# Altium integrated library Linear Technology PMIC-Switching Reg LTC1174-LTC3901.IntLib: 2647 symbols (part 11 of 310)
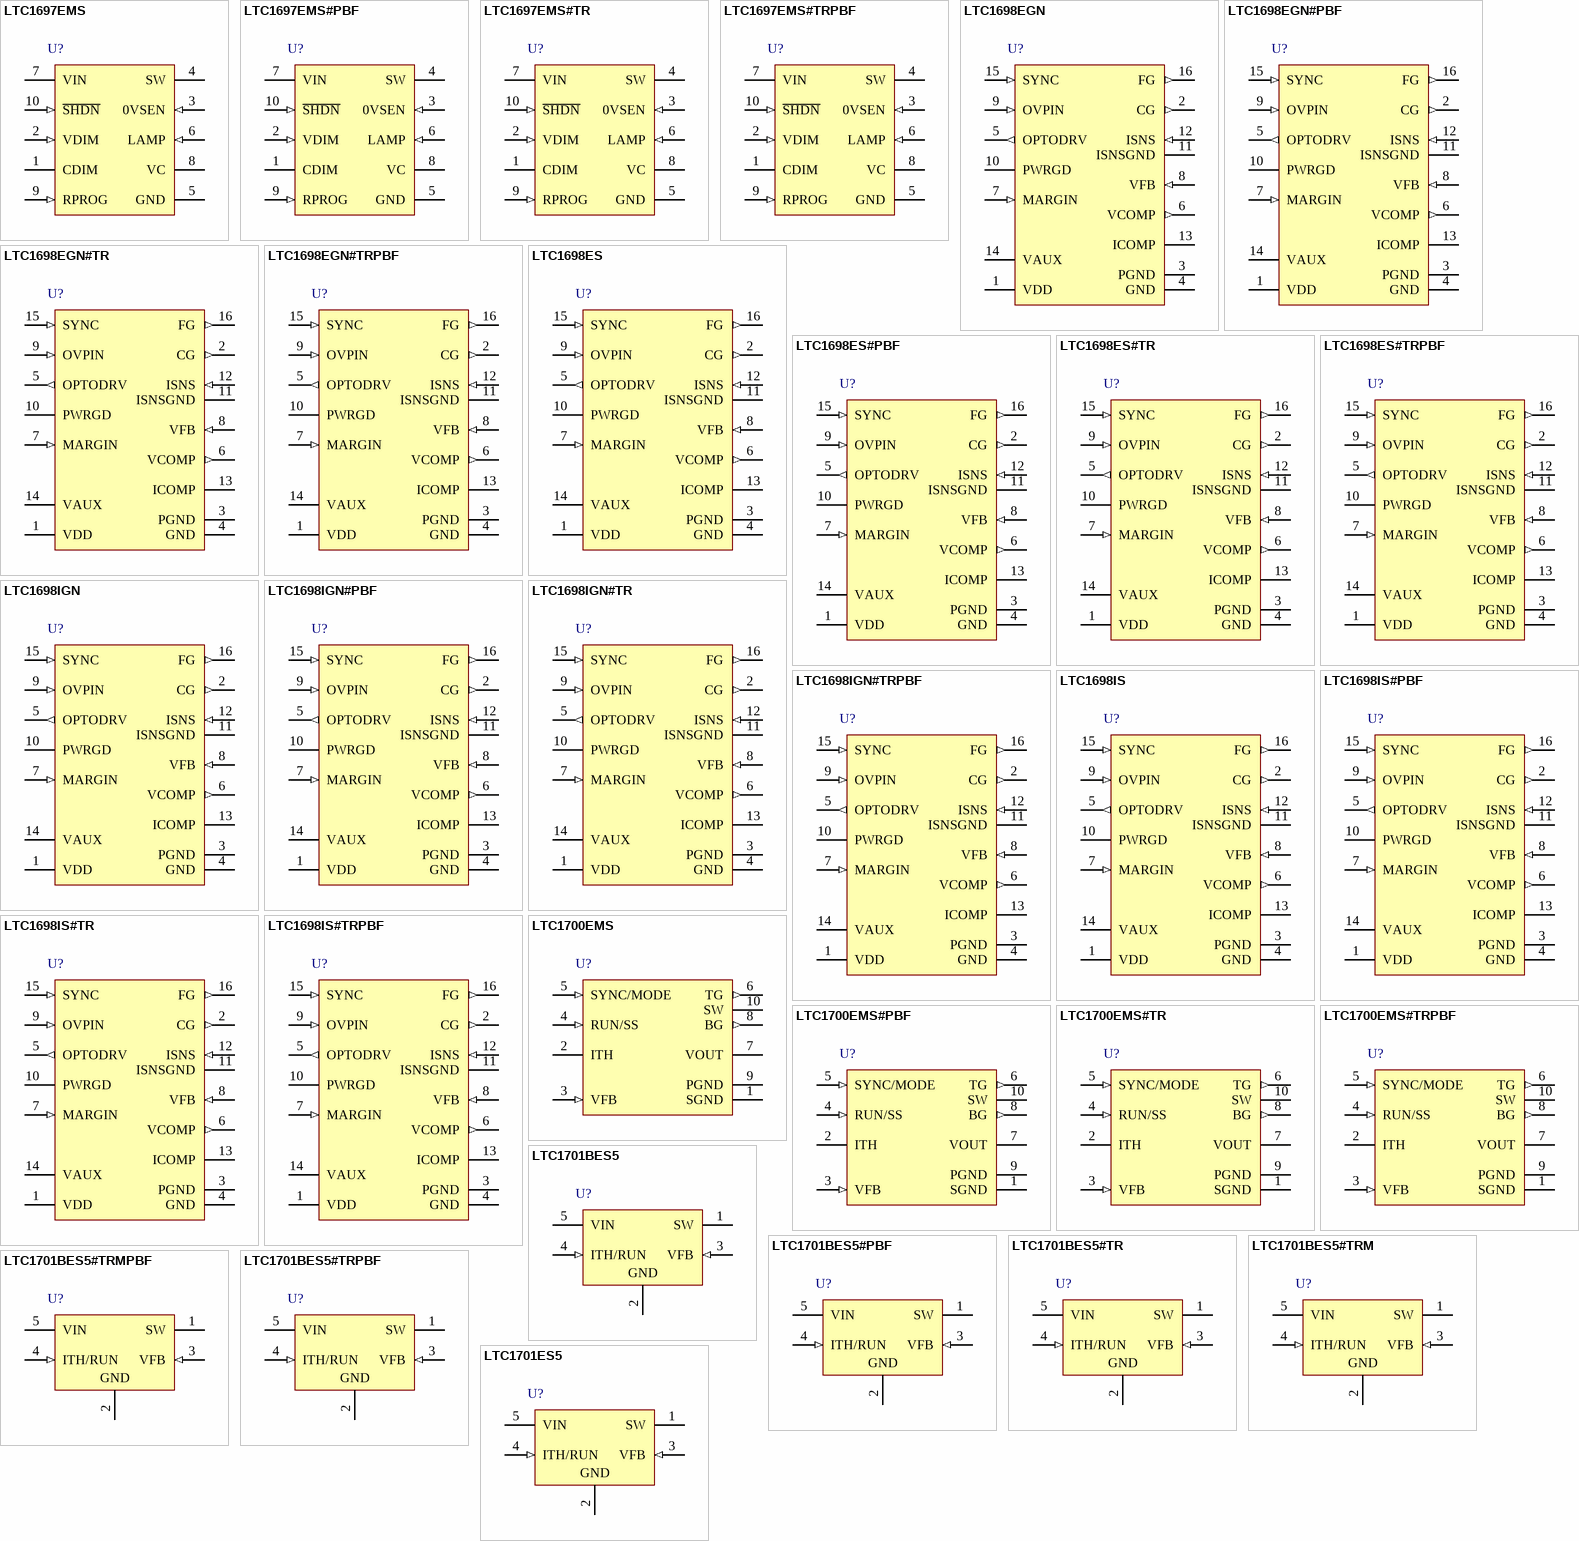
[diagram p121: symbols LTC1697EMS to LTC1701ES5]

## LTC1698IS#PBF
designator U?
Secondary Synchronous Rectifier Controller MIN, 16-pin SOP (S-16), -40 to 85 degC, Pb-Free; Manufacturer: Linear Technology; PartNumber: LTC1698IS#PBF; Number of Outputs: 1; PackageReference: S-16; PackageDescription: 16-Pin Plastic Small Outline, Body 9.9 x 3.9 mm, Pitch 1.27 mm; Supplier 1: Digi-Key; Supplier Part Number 1: LTC1698IS#PBF-ND; RoHS: TRUE
footprint LT-S-16_N (SOP, 16-Leads, Body 10x4mm, Pitch 1.27mm, IPC Medium Density)
footprint LT-S-16_L (SOP, 16-Leads, Body 10x4mm, Pitch 1.27mm, IPC High Density)
footprint LT-S-16_M (SOP, 16-Leads, Body 10x4mm, Pitch 1.27mm, IPC Low Density)
pins: 1 VDD (power) "Power Supply Input. For isolated applications, a simple rectifier from the power transformer is used to power the chip. This pin powers the opto driver, the VAUX supply and the FG and CG drivers. An internal 5V regulator (See Datasheet)", 2 CG (out) "Catch Gate Driver. If SYNC slews positive, CG pulls high to drive an external N-channel MOSFET. CG draws power from the VDD pin and swings between VDD and PGND.", 3 PGND (power) "Power Ground. Connect PGND to a low impedance ground plane in close proximity to the ground terminal of the external current sensing resistor.", 4 GND (power) "Logic and Signal Ground. GND is referenced to the internal low power circuitry. Careful board layout techniques must be used to prevent corruption of signal ground reference. Connect GND and PGND together directly at the (See Datasheet)", 5 OPTODRV (out) "Optocoupler Driver Output. This pin drives a ground referenced optocoupler through an external resistor. If VFB is low, OPTODRV pulls low. If VFB is high, OPTODRV pulls high. This optocoupler driver has a DC gain of 5. (See Datasheet)", 6 VCOMP (out) "Error Amplifier Output. This error amplifier is able to drive more than 2kohm and 100pF of load. The internal diode connected from VFB to VCOMP reduces OPTODRV recovery time under start-up conditions.", 7 MARGIN (in) "Current Input to Adjust the Output Voltage Linearly. The MARGIN pin connects to an internal 16.5k resistor. The other end of this resistor is regulated to 1.65V. Connecting MARGIN to a 3.3V logic supply sources 100uA of (See Datasheet)", 8 VFB (in) "Feedback Voltage. VFB senses the regulated output voltage through an external resistor divider. The VFB pin is servoed to the reference voltage of 1.233V under closed-loop conditions. An RC network from VFB to VCOMP (See Datasheet)", 9 OVPIN (in) "Overvoltage Input. OVPIN is a high impedance input to an internal comparator. The threshold of this comparator is set to 1.233V. If the OVPIN potential is higher than the threshold voltage, OPTODRV pulls high immediately. (See Datasheet)", 10 PWRGD (oc) "Power Good Output. This is an opendrain output. PWRGD floats if VFB is above 94% of the nominal value for more than 2ms. PWRGD pulls low if VFB is below 94% of the nominal value for more than 1ms. The PWRGD threshold is (See Datasheet)", 11 ISNSGND (power) "Current Sense Ground. Connect to the positive side of the sense resistor, normally grounded.", 12 ISNS (in) "Current Sense Input. Connect to the negative side of the sense resistor through an external RC lowpass filter. This pin normally sees a negative voltage, which is proportional to the average load current. If current limit is (See Datasheet)", 13 ICOMP "Current Amplifier Output. An RC network at this pin compensates the current limit feedback loop. Referencing the RC to VOUT controls output voltage overshoot on start-up. This pin can float if current limit loop compensation (See Datasheet)", 14 VAUX (power) "Auxiliary 3.3V Logic Supply. This pin requires a 0.1uF or greater bypass capacitor. This auxiliary power supply can power external devices and sources 10mA of current. Internal current limiting is provided.", 15 SYNC (in) "Drivers Synchronization Input. A negative voltage slew at SYNC forces FG to pull high and CG to pull low. A positive voltage slew at SYNC resets the FG pin and CG pulls high. If SYNC loses its synchronization signal for more (See Datasheet)", 16 FG (out) "Forward Gate Driver. If SYNC slews negative, FG goes high. FG draws power from VDD and swings between VDD and PGND."

## LTC1698IS#TR
designator U?
Secondary Synchronous Rectifier Controller MIN, 16-pin SOP (S-16), -40 to 85 degC, Tape and Reel; Manufacturer: Linear Technology; PartNumber: LTC1698IS#TR; Number of Outputs: 1; PackageReference: S-16; PackageDescription: 16-Pin Plastic Small Outline, Body 9.9 x 3.9 mm, Pitch 1.27 mm; Supplier 1: Digi-Key; Supplier Part Number 1: LTC1698IS#TR-ND; RoHS: FALSE
footprint LT-S-16_N (SOP, 16-Leads, Body 10x4mm, Pitch 1.27mm, IPC Medium Density)
footprint LT-S-16_L (SOP, 16-Leads, Body 10x4mm, Pitch 1.27mm, IPC High Density)
footprint LT-S-16_M (SOP, 16-Leads, Body 10x4mm, Pitch 1.27mm, IPC Low Density)
pins: 1 VDD (power) "Power Supply Input. For isolated applications, a simple rectifier from the power transformer is used to power the chip. This pin powers the opto driver, the VAUX supply and the FG and CG drivers. An internal 5V regulator (See Datasheet)", 2 CG (out) "Catch Gate Driver. If SYNC slews positive, CG pulls high to drive an external N-channel MOSFET. CG draws power from the VDD pin and swings between VDD and PGND.", 3 PGND (power) "Power Ground. Connect PGND to a low impedance ground plane in close proximity to the ground terminal of the external current sensing resistor.", 4 GND (power) "Logic and Signal Ground. GND is referenced to the internal low power circuitry. Careful board layout techniques must be used to prevent corruption of signal ground reference. Connect GND and PGND together directly at the (See Datasheet)", 5 OPTODRV (out) "Optocoupler Driver Output. This pin drives a ground referenced optocoupler through an external resistor. If VFB is low, OPTODRV pulls low. If VFB is high, OPTODRV pulls high. This optocoupler driver has a DC gain of 5. (See Datasheet)", 6 VCOMP (out) "Error Amplifier Output. This error amplifier is able to drive more than 2kohm and 100pF of load. The internal diode connected from VFB to VCOMP reduces OPTODRV recovery time under start-up conditions.", 7 MARGIN (in) "Current Input to Adjust the Output Voltage Linearly. The MARGIN pin connects to an internal 16.5k resistor. The other end of this resistor is regulated to 1.65V. Connecting MARGIN to a 3.3V logic supply sources 100uA of (See Datasheet)", 8 VFB (in) "Feedback Voltage. VFB senses the regulated output voltage through an external resistor divider. The VFB pin is servoed to the reference voltage of 1.233V under closed-loop conditions. An RC network from VFB to VCOMP (See Datasheet)", 9 OVPIN (in) "Overvoltage Input. OVPIN is a high impedance input to an internal comparator. The threshold of this comparator is set to 1.233V. If the OVPIN potential is higher than the threshold voltage, OPTODRV pulls high immediately. (See Datasheet)", 10 PWRGD (oc) "Power Good Output. This is an opendrain output. PWRGD floats if VFB is above 94% of the nominal value for more than 2ms. PWRGD pulls low if VFB is below 94% of the nominal value for more than 1ms. The PWRGD threshold is (See Datasheet)", 11 ISNSGND (power) "Current Sense Ground. Connect to the positive side of the sense resistor, normally grounded.", 12 ISNS (in) "Current Sense Input. Connect to the negative side of the sense resistor through an external RC lowpass filter. This pin normally sees a negative voltage, which is proportional to the average load current. If current limit is (See Datasheet)", 13 ICOMP "Current Amplifier Output. An RC network at this pin compensates the current limit feedback loop. Referencing the RC to VOUT controls output voltage overshoot on start-up. This pin can float if current limit loop compensation (See Datasheet)", 14 VAUX (power) "Auxiliary 3.3V Logic Supply. This pin requires a 0.1uF or greater bypass capacitor. This auxiliary power supply can power external devices and sources 10mA of current. Internal current limiting is provided.", 15 SYNC (in) "Drivers Synchronization Input. A negative voltage slew at SYNC forces FG to pull high and CG to pull low. A positive voltage slew at SYNC resets the FG pin and CG pulls high. If SYNC loses its synchronization signal for more (See Datasheet)", 16 FG (out) "Forward Gate Driver. If SYNC slews negative, FG goes high. FG draws power from VDD and swings between VDD and PGND."

## LTC1698IS#TRPBF
designator U?
Secondary Synchronous Rectifier Controller MIN, 16-pin SOP (S-16), -40 to 85 degC, Pb-Free, Tape and Reel; Manufacturer: Linear Technology; PartNumber: LTC1698IS#TRPBF; Number of Outputs: 1; PackageReference: S-16; PackageDescription: 16-Pin Plastic Small Outline, Body 9.9 x 3.9 mm, Pitch 1.27 mm; Supplier 1: Digi-Key; Supplier Part Number 1: LTC1698IS#TRPBF-ND; RoHS: TRUE
footprint LT-S-16_N (SOP, 16-Leads, Body 10x4mm, Pitch 1.27mm, IPC Medium Density)
footprint LT-S-16_L (SOP, 16-Leads, Body 10x4mm, Pitch 1.27mm, IPC High Density)
footprint LT-S-16_M (SOP, 16-Leads, Body 10x4mm, Pitch 1.27mm, IPC Low Density)
pins: 1 VDD (power) "Power Supply Input. For isolated applications, a simple rectifier from the power transformer is used to power the chip. This pin powers the opto driver, the VAUX supply and the FG and CG drivers. An internal 5V regulator (See Datasheet)", 2 CG (out) "Catch Gate Driver. If SYNC slews positive, CG pulls high to drive an external N-channel MOSFET. CG draws power from the VDD pin and swings between VDD and PGND.", 3 PGND (power) "Power Ground. Connect PGND to a low impedance ground plane in close proximity to the ground terminal of the external current sensing resistor.", 4 GND (power) "Logic and Signal Ground. GND is referenced to the internal low power circuitry. Careful board layout techniques must be used to prevent corruption of signal ground reference. Connect GND and PGND together directly at the (See Datasheet)", 5 OPTODRV (out) "Optocoupler Driver Output. This pin drives a ground referenced optocoupler through an external resistor. If VFB is low, OPTODRV pulls low. If VFB is high, OPTODRV pulls high. This optocoupler driver has a DC gain of 5. (See Datasheet)", 6 VCOMP (out) "Error Amplifier Output. This error amplifier is able to drive more than 2kohm and 100pF of load. The internal diode connected from VFB to VCOMP reduces OPTODRV recovery time under start-up conditions.", 7 MARGIN (in) "Current Input to Adjust the Output Voltage Linearly. The MARGIN pin connects to an internal 16.5k resistor. The other end of this resistor is regulated to 1.65V. Connecting MARGIN to a 3.3V logic supply sources 100uA of (See Datasheet)", 8 VFB (in) "Feedback Voltage. VFB senses the regulated output voltage through an external resistor divider. The VFB pin is servoed to the reference voltage of 1.233V under closed-loop conditions. An RC network from VFB to VCOMP (See Datasheet)", 9 OVPIN (in) "Overvoltage Input. OVPIN is a high impedance input to an internal comparator. The threshold of this comparator is set to 1.233V. If the OVPIN potential is higher than the threshold voltage, OPTODRV pulls high immediately. (See Datasheet)", 10 PWRGD (oc) "Power Good Output. This is an opendrain output. PWRGD floats if VFB is above 94% of the nominal value for more than 2ms. PWRGD pulls low if VFB is below 94% of the nominal value for more than 1ms. The PWRGD threshold is (See Datasheet)", 11 ISNSGND (power) "Current Sense Ground. Connect to the positive side of the sense resistor, normally grounded.", 12 ISNS (in) "Current Sense Input. Connect to the negative side of the sense resistor through an external RC lowpass filter. This pin normally sees a negative voltage, which is proportional to the average load current. If current limit is (See Datasheet)", 13 ICOMP "Current Amplifier Output. An RC network at this pin compensates the current limit feedback loop. Referencing the RC to VOUT controls output voltage overshoot on start-up. This pin can float if current limit loop compensation (See Datasheet)", 14 VAUX (power) "Auxiliary 3.3V Logic Supply. This pin requires a 0.1uF or greater bypass capacitor. This auxiliary power supply can power external devices and sources 10mA of current. Internal current limiting is provided.", 15 SYNC (in) "Drivers Synchronization Input. A negative voltage slew at SYNC forces FG to pull high and CG to pull low. A positive voltage slew at SYNC resets the FG pin and CG pulls high. If SYNC loses its synchronization signal for more (See Datasheet)", 16 FG (out) "Forward Gate Driver. If SYNC slews negative, FG goes high. FG draws power from VDD and swings between VDD and PGND."

## LTC1700EMS
designator U?
No Rsense Synchronous Step-Up DC/DC Controller MAX, 10-pin SOP (MS-10), -40 to 85 degC; Manufacturer: Linear Technology; PartNumber: LTC1700EMS; Number of Outputs: 1; PackageReference: MS-10; PackageDescription: 10-Pin Plastic MSOP, Body 3 x 3 mm, Pitch 0.5 mm; Supplier 1: Digi-Key; Supplier Part Number 1: LTC1700EMS-ND; RoHS: FALSE
footprint LT-MS-10_N (SOP, 10-Leads, Body 3.1x3.1mm, Pitch 0.5mm, IPC Medium Density)
footprint LT-MS-10_L (SOP, 10-Leads, Body 3.1x3.1mm, Pitch 0.5mm, IPC High Density)
footprint LT-MS-10_M (SOP, 10-Leads, Body 3.1x3.1mm, Pitch 0.5mm, IPC Low Density)
pins: 1 SGND (power) "Small-Signal Ground. Must be routed separately from other grounds to the (-) terminal of COUT.", 2 ITH "Error Amplifier Compensation Point. The current comparator threshold increases with this control voltage. Nominal voltage range for this pin is 0V to 1.18V.", 3 VFB (in) "Receives the feedback voltage from an external resistive divider across the output capacitor.", 4 RUN/SS (in) "Combination of Soft-Start and Run Control Inputs. A capacitor to ground at this pin sets the ramp time to full output current. The time is approximately 0.45s/uF. Forcing this pin below 1.08V causes all circuitry to be shut (See Datasheet)", 5 SYNC/MODE (in) "This pin performs three functions. A voltage greater than 1.2V on this pin allows Burst Mode operation at low load currents, while grounding or applying a clock signal on this pin defeats Burst Mode operation. An external (See Datasheet)", 6 TG (out) "Top Gate Drive. Drives the external synchronous P-channel MOSFET with a voltage swing between 0V to VOUT.", 7 VOUT (power) "This pin performs two functions. It serves as the supply pin and also as one of the inputs to the current reversal comparator.", 8 BG (out) "Bottom Gate Drive. Drives the external main N-channel MOSFET with a voltage swing between 0V to VOUT.", 9 PGND (power) "Top and Bottom Gate Drivers Ground. Connects to the (-) terminal of COUT. Source of the main N-channel MOSFET must be connected close to this pin since this pin is also one of the inputs to the VDS sense amplifier.", 10 SW (power) "This pin connects to the inputs of two comparators: The VDS sense amplifier and the current reversal comparator. The drain of an internal N-channel start-up MOSFET (M1) is also connected to this pin."

## LTC1700EMS#PBF
designator U?
No Rsense Synchronous Step-Up DC/DC Controller MAX, 10-pin SOP (MS-10), -40 to 85 degC, Pb-Free; Manufacturer: Linear Technology; PartNumber: LTC1700EMS#PBF; Number of Outputs: 1; PackageReference: MS-10; PackageDescription: 10-Pin Plastic MSOP, Body 3 x 3 mm, Pitch 0.5 mm; Supplier 1: Digi-Key; Supplier Part Number 1: LTC1700EMS#PBF-ND; RoHS: TRUE
footprint LT-MS-10_N (SOP, 10-Leads, Body 3.1x3.1mm, Pitch 0.5mm, IPC Medium Density)
footprint LT-MS-10_L (SOP, 10-Leads, Body 3.1x3.1mm, Pitch 0.5mm, IPC High Density)
footprint LT-MS-10_M (SOP, 10-Leads, Body 3.1x3.1mm, Pitch 0.5mm, IPC Low Density)
pins: 1 SGND (power) "Small-Signal Ground. Must be routed separately from other grounds to the (-) terminal of COUT.", 2 ITH "Error Amplifier Compensation Point. The current comparator threshold increases with this control voltage. Nominal voltage range for this pin is 0V to 1.18V.", 3 VFB (in) "Receives the feedback voltage from an external resistive divider across the output capacitor.", 4 RUN/SS (in) "Combination of Soft-Start and Run Control Inputs. A capacitor to ground at this pin sets the ramp time to full output current. The time is approximately 0.45s/uF. Forcing this pin below 1.08V causes all circuitry to be shut (See Datasheet)", 5 SYNC/MODE (in) "This pin performs three functions. A voltage greater than 1.2V on this pin allows Burst Mode operation at low load currents, while grounding or applying a clock signal on this pin defeats Burst Mode operation. An external (See Datasheet)", 6 TG (out) "Top Gate Drive. Drives the external synchronous P-channel MOSFET with a voltage swing between 0V to VOUT.", 7 VOUT (power) "This pin performs two functions. It serves as the supply pin and also as one of the inputs to the current reversal comparator.", 8 BG (out) "Bottom Gate Drive. Drives the external main N-channel MOSFET with a voltage swing between 0V to VOUT.", 9 PGND (power) "Top and Bottom Gate Drivers Ground. Connects to the (-) terminal of COUT. Source of the main N-channel MOSFET must be connected close to this pin since this pin is also one of the inputs to the VDS sense amplifier.", 10 SW (power) "This pin connects to the inputs of two comparators: The VDS sense amplifier and the current reversal comparator. The drain of an internal N-channel start-up MOSFET (M1) is also connected to this pin."

## LTC1700EMS#TR
designator U?
No Rsense Synchronous Step-Up DC/DC Controller MAX, 10-pin SOP (MS-10), -40 to 85 degC, Tape and Reel; Manufacturer: Linear Technology; PartNumber: LTC1700EMS#TR; Number of Outputs: 1; PackageReference: MS-10; PackageDescription: 10-Pin Plastic MSOP, Body 3 x 3 mm, Pitch 0.5 mm; Supplier 1: Digi-Key; Supplier Part Number 1: LTC1700EMSTR-ND; RoHS: FALSE
footprint LT-MS-10_N (SOP, 10-Leads, Body 3.1x3.1mm, Pitch 0.5mm, IPC Medium Density)
footprint LT-MS-10_L (SOP, 10-Leads, Body 3.1x3.1mm, Pitch 0.5mm, IPC High Density)
footprint LT-MS-10_M (SOP, 10-Leads, Body 3.1x3.1mm, Pitch 0.5mm, IPC Low Density)
pins: 1 SGND (power) "Small-Signal Ground. Must be routed separately from other grounds to the (-) terminal of COUT.", 2 ITH "Error Amplifier Compensation Point. The current comparator threshold increases with this control voltage. Nominal voltage range for this pin is 0V to 1.18V.", 3 VFB (in) "Receives the feedback voltage from an external resistive divider across the output capacitor.", 4 RUN/SS (in) "Combination of Soft-Start and Run Control Inputs. A capacitor to ground at this pin sets the ramp time to full output current. The time is approximately 0.45s/uF. Forcing this pin below 1.08V causes all circuitry to be shut (See Datasheet)", 5 SYNC/MODE (in) "This pin performs three functions. A voltage greater than 1.2V on this pin allows Burst Mode operation at low load currents, while grounding or applying a clock signal on this pin defeats Burst Mode operation. An external (See Datasheet)", 6 TG (out) "Top Gate Drive. Drives the external synchronous P-channel MOSFET with a voltage swing between 0V to VOUT.", 7 VOUT (power) "This pin performs two functions. It serves as the supply pin and also as one of the inputs to the current reversal comparator.", 8 BG (out) "Bottom Gate Drive. Drives the external main N-channel MOSFET with a voltage swing between 0V to VOUT.", 9 PGND (power) "Top and Bottom Gate Drivers Ground. Connects to the (-) terminal of COUT. Source of the main N-channel MOSFET must be connected close to this pin since this pin is also one of the inputs to the VDS sense amplifier.", 10 SW (power) "This pin connects to the inputs of two comparators: The VDS sense amplifier and the current reversal comparator. The drain of an internal N-channel start-up MOSFET (M1) is also connected to this pin."

## LTC1700EMS#TRPBF
designator U?
No Rsense Synchronous Step-Up DC/DC Controller MAX, 10-pin SOP (MS-10), -40 to 85 degC, Pb-Free, Tape and Reel; Manufacturer: Linear Technology; PartNumber: LTC1700EMS#TRPBF; Number of Outputs: 1; PackageReference: MS-10; PackageDescription: 10-Pin Plastic MSOP, Body 3 x 3 mm, Pitch 0.5 mm; Supplier 1: Digi-Key; Supplier Part Number 1: LTC1700EMS#TRPBF-ND; RoHS: TRUE
footprint LT-MS-10_N (SOP, 10-Leads, Body 3.1x3.1mm, Pitch 0.5mm, IPC Medium Density)
footprint LT-MS-10_L (SOP, 10-Leads, Body 3.1x3.1mm, Pitch 0.5mm, IPC High Density)
footprint LT-MS-10_M (SOP, 10-Leads, Body 3.1x3.1mm, Pitch 0.5mm, IPC Low Density)
pins: 1 SGND (power) "Small-Signal Ground. Must be routed separately from other grounds to the (-) terminal of COUT.", 2 ITH "Error Amplifier Compensation Point. The current comparator threshold increases with this control voltage. Nominal voltage range for this pin is 0V to 1.18V.", 3 VFB (in) "Receives the feedback voltage from an external resistive divider across the output capacitor.", 4 RUN/SS (in) "Combination of Soft-Start and Run Control Inputs. A capacitor to ground at this pin sets the ramp time to full output current. The time is approximately 0.45s/uF. Forcing this pin below 1.08V causes all circuitry to be shut (See Datasheet)", 5 SYNC/MODE (in) "This pin performs three functions. A voltage greater than 1.2V on this pin allows Burst Mode operation at low load currents, while grounding or applying a clock signal on this pin defeats Burst Mode operation. An external (See Datasheet)", 6 TG (out) "Top Gate Drive. Drives the external synchronous P-channel MOSFET with a voltage swing between 0V to VOUT.", 7 VOUT (power) "This pin performs two functions. It serves as the supply pin and also as one of the inputs to the current reversal comparator.", 8 BG (out) "Bottom Gate Drive. Drives the external main N-channel MOSFET with a voltage swing between 0V to VOUT.", 9 PGND (power) "Top and Bottom Gate Drivers Ground. Connects to the (-) terminal of COUT. Source of the main N-channel MOSFET must be connected close to this pin since this pin is also one of the inputs to the VDS sense amplifier.", 10 SW (power) "This pin connects to the inputs of two comparators: The VDS sense amplifier and the current reversal comparator. The drain of an internal N-channel start-up MOSFET (M1) is also connected to this pin."

## LTC1701BES5
designator U?
1 MHz Step-Down DC/DC Converter, No Burst Mode, 5-pin SOT23 (S5-5), -40 to 85 degC; Manufacturer: Linear Technology; PartNumber: LTC1701BES5; Number of Outputs: 1; PackageReference: S5-5; PackageDescription: 5-Pin Plastic TSOT-23, Body 1.63 x 2.90 mm, Pitch 0.95 mm; RoHS: FALSE; Code_JEDEC: MO-193
footprint LT-S5-5-TSOT-23_N (SOT23, 5-Leads, Body 2.90x1.63mm, Pitch 0.95mm, IPC Medium Density)
footprint LT-S5-5-TSOT-23_L (SOT23, 5-Leads, Body 2.90x1.63mm, Pitch 0.95mm, IPC High Density)
footprint LT-S5-5-TSOT-23_M (SOT23, 5-Leads, Body 2.90x1.63mm, Pitch 0.95mm, IPC Low Density)
pins: 1 SW (power) "The Switch Node Connection to the Inductor. This pin swings from VIN to a Schottky diode (external) voltage drop below ground. The cathode of the Schottky diode must be closely connected to this pin.", 2 GND (power) "Ground Pin. Connect to the (-) terminal of COUT, the Schottky diode and (-) terminal of CIN.", 3 VFB (in) "Receives the feedback voltage from the external resistive divider across the output. Nominal voltage for this pin is 1.25V.", 4 ITH/RUN (in) "Combination of Error Amplifier Compensation Point and Run Control Input. The current comparator threshold increases with this control voltage. Nominal voltage range for this pin is 1.25V to 2.25V. Forcing this pin below 0.8V (See Datasheet)", 5 VIN (power) "Main Supply Pin and the (+) Input to the Current Comparator. Must be closely decoupled to ground."

## LTC1701BES5#PBF
designator U?
1 MHz Step-Down DC/DC Converter, No Burst Mode, 5-pin SOT23 (S5-5), -40 to 85 degC, Pb-Free; Manufacturer: Linear Technology; PartNumber: LTC1701BES5#PBF; Number of Outputs: 1; PackageReference: S5-5; PackageDescription: 5-Pin Plastic TSOT-23, Body 1.63 x 2.90 mm, Pitch 0.95 mm; Supplier 1: Newark; Supplier Part Number 1: 78T2511; RoHS: TRUE; Code_JEDEC: MO-193
footprint LT-S5-5-TSOT-23_N (SOT23, 5-Leads, Body 2.90x1.63mm, Pitch 0.95mm, IPC Medium Density)
footprint LT-S5-5-TSOT-23_L (SOT23, 5-Leads, Body 2.90x1.63mm, Pitch 0.95mm, IPC High Density)
footprint LT-S5-5-TSOT-23_M (SOT23, 5-Leads, Body 2.90x1.63mm, Pitch 0.95mm, IPC Low Density)
pins: 1 SW (power) "The Switch Node Connection to the Inductor. This pin swings from VIN to a Schottky diode (external) voltage drop below ground. The cathode of the Schottky diode must be closely connected to this pin.", 2 GND (power) "Ground Pin. Connect to the (-) terminal of COUT, the Schottky diode and (-) terminal of CIN.", 3 VFB (in) "Receives the feedback voltage from the external resistive divider across the output. Nominal voltage for this pin is 1.25V.", 4 ITH/RUN (in) "Combination of Error Amplifier Compensation Point and Run Control Input. The current comparator threshold increases with this control voltage. Nominal voltage range for this pin is 1.25V to 2.25V. Forcing this pin below 0.8V (See Datasheet)", 5 VIN (power) "Main Supply Pin and the (+) Input to the Current Comparator. Must be closely decoupled to ground."

## LTC1701BES5#TR
designator U?
1 MHz Step-Down DC/DC Converter, No Burst Mode, 5-pin SOT23 (S5-5), -40 to 85 degC, Tape and Reel; Manufacturer: Linear Technology; PartNumber: LTC1701BES5#TR; Number of Outputs: 1; PackageReference: S5-5; PackageDescription: 5-Pin Plastic TSOT-23, Body 1.63 x 2.90 mm, Pitch 0.95 mm; Supplier 1: Digi-Key; Supplier Part Number 1: LTC1701BES5TR-ND; RoHS: FALSE; Code_JEDEC: MO-193
footprint LT-S5-5-TSOT-23_N (SOT23, 5-Leads, Body 2.90x1.63mm, Pitch 0.95mm, IPC Medium Density)
footprint LT-S5-5-TSOT-23_L (SOT23, 5-Leads, Body 2.90x1.63mm, Pitch 0.95mm, IPC High Density)
footprint LT-S5-5-TSOT-23_M (SOT23, 5-Leads, Body 2.90x1.63mm, Pitch 0.95mm, IPC Low Density)
pins: 1 SW (power) "The Switch Node Connection to the Inductor. This pin swings from VIN to a Schottky diode (external) voltage drop below ground. The cathode of the Schottky diode must be closely connected to this pin.", 2 GND (power) "Ground Pin. Connect to the (-) terminal of COUT, the Schottky diode and (-) terminal of CIN.", 3 VFB (in) "Receives the feedback voltage from the external resistive divider across the output. Nominal voltage for this pin is 1.25V.", 4 ITH/RUN (in) "Combination of Error Amplifier Compensation Point and Run Control Input. The current comparator threshold increases with this control voltage. Nominal voltage range for this pin is 1.25V to 2.25V. Forcing this pin below 0.8V (See Datasheet)", 5 VIN (power) "Main Supply Pin and the (+) Input to the Current Comparator. Must be closely decoupled to ground."

## LTC1701BES5#TRM
designator U?
1 MHz Step-Down DC/DC Converter, No Burst Mode, 5-pin SOT23 (S5-5), -40 to 85 degC, Mini Tape and Reel; Manufacturer: Linear Technology; PartNumber: LTC1701BES5#TRM; Number of Outputs: 1; PackageReference: S5-5; PackageDescription: 5-Pin Plastic TSOT-23, Body 1.63 x 2.90 mm, Pitch 0.95 mm; Supplier 1: Digi-Key; Supplier Part Number 1: LTC1701BES5#TRMTR-ND; RoHS: FALSE; Code_JEDEC: MO-193
footprint LT-S5-5-TSOT-23_N (SOT23, 5-Leads, Body 2.90x1.63mm, Pitch 0.95mm, IPC Medium Density)
footprint LT-S5-5-TSOT-23_L (SOT23, 5-Leads, Body 2.90x1.63mm, Pitch 0.95mm, IPC High Density)
footprint LT-S5-5-TSOT-23_M (SOT23, 5-Leads, Body 2.90x1.63mm, Pitch 0.95mm, IPC Low Density)
pins: 1 SW (power) "The Switch Node Connection to the Inductor. This pin swings from VIN to a Schottky diode (external) voltage drop below ground. The cathode of the Schottky diode must be closely connected to this pin.", 2 GND (power) "Ground Pin. Connect to the (-) terminal of COUT, the Schottky diode and (-) terminal of CIN.", 3 VFB (in) "Receives the feedback voltage from the external resistive divider across the output. Nominal voltage for this pin is 1.25V.", 4 ITH/RUN (in) "Combination of Error Amplifier Compensation Point and Run Control Input. The current comparator threshold increases with this control voltage. Nominal voltage range for this pin is 1.25V to 2.25V. Forcing this pin below 0.8V (See Datasheet)", 5 VIN (power) "Main Supply Pin and the (+) Input to the Current Comparator. Must be closely decoupled to ground."

## LTC1701BES5#TRMPBF
designator U?
1 MHz Step-Down DC/DC Converter, No Burst Mode, 5-pin SOT23 (S5-5), -40 to 85 degC, Pb-Free, Mini Tape and Reel; Manufacturer: Linear Technology; PartNumber: LTC1701BES5#TRMPBF; Number of Outputs: 1; PackageReference: S5-5; PackageDescription: 5-Pin Plastic TSOT-23, Body 1.63 x 2.90 mm, Pitch 0.95 mm; Supplier 1: Digi-Key; Supplier Part Number 1: LTC1701BES5#TRMPBFTR-ND; RoHS: TRUE; Code_JEDEC: MO-193
footprint LT-S5-5-TSOT-23_N (SOT23, 5-Leads, Body 2.90x1.63mm, Pitch 0.95mm, IPC Medium Density)
footprint LT-S5-5-TSOT-23_L (SOT23, 5-Leads, Body 2.90x1.63mm, Pitch 0.95mm, IPC High Density)
footprint LT-S5-5-TSOT-23_M (SOT23, 5-Leads, Body 2.90x1.63mm, Pitch 0.95mm, IPC Low Density)
pins: 1 SW (power) "The Switch Node Connection to the Inductor. This pin swings from VIN to a Schottky diode (external) voltage drop below ground. The cathode of the Schottky diode must be closely connected to this pin.", 2 GND (power) "Ground Pin. Connect to the (-) terminal of COUT, the Schottky diode and (-) terminal of CIN.", 3 VFB (in) "Receives the feedback voltage from the external resistive divider across the output. Nominal voltage for this pin is 1.25V.", 4 ITH/RUN (in) "Combination of Error Amplifier Compensation Point and Run Control Input. The current comparator threshold increases with this control voltage. Nominal voltage range for this pin is 1.25V to 2.25V. Forcing this pin below 0.8V (See Datasheet)", 5 VIN (power) "Main Supply Pin and the (+) Input to the Current Comparator. Must be closely decoupled to ground."

## LTC1701BES5#TRPBF
designator U?
1 MHz Step-Down DC/DC Converter, No Burst Mode, 5-pin SOT23 (S5-5), -40 to 85 degC, Pb-Free, Tape and Reel; Manufacturer: Linear Technology; PartNumber: LTC1701BES5#TRPBF; Number of Outputs: 1; PackageReference: S5-5; PackageDescription: 5-Pin Plastic TSOT-23, Body 1.63 x 2.90 mm, Pitch 0.95 mm; Supplier 1: Digi-Key; Supplier Part Number 1: LTC1701BES5#TRPBF-ND; RoHS: TRUE; Code_JEDEC: MO-193
footprint LT-S5-5-TSOT-23_N (SOT23, 5-Leads, Body 2.90x1.63mm, Pitch 0.95mm, IPC Medium Density)
footprint LT-S5-5-TSOT-23_L (SOT23, 5-Leads, Body 2.90x1.63mm, Pitch 0.95mm, IPC High Density)
footprint LT-S5-5-TSOT-23_M (SOT23, 5-Leads, Body 2.90x1.63mm, Pitch 0.95mm, IPC Low Density)
pins: 1 SW (power) "The Switch Node Connection to the Inductor. This pin swings from VIN to a Schottky diode (external) voltage drop below ground. The cathode of the Schottky diode must be closely connected to this pin.", 2 GND (power) "Ground Pin. Connect to the (-) terminal of COUT, the Schottky diode and (-) terminal of CIN.", 3 VFB (in) "Receives the feedback voltage from the external resistive divider across the output. Nominal voltage for this pin is 1.25V.", 4 ITH/RUN (in) "Combination of Error Amplifier Compensation Point and Run Control Input. The current comparator threshold increases with this control voltage. Nominal voltage range for this pin is 1.25V to 2.25V. Forcing this pin below 0.8V (See Datasheet)", 5 VIN (power) "Main Supply Pin and the (+) Input to the Current Comparator. Must be closely decoupled to ground."

## LTC1701ES5
designator U?
1 MHz Step-Down DC/DC Converter, 5-pin SOT23 (S5-5), -40 to 85 degC; Manufacturer: Linear Technology; PartNumber: LTC1701ES5; Number of Outputs: 1; PackageReference: S5-5; PackageDescription: 5-Pin Plastic TSOT-23, Body 1.63 x 2.90 mm, Pitch 0.95 mm; RoHS: FALSE; Code_JEDEC: MO-193
footprint LT-S5-5-TSOT-23_N (SOT23, 5-Leads, Body 2.90x1.63mm, Pitch 0.95mm, IPC Medium Density)
footprint LT-S5-5-TSOT-23_L (SOT23, 5-Leads, Body 2.90x1.63mm, Pitch 0.95mm, IPC High Density)
footprint LT-S5-5-TSOT-23_M (SOT23, 5-Leads, Body 2.90x1.63mm, Pitch 0.95mm, IPC Low Density)
pins: 1 SW (power) "The Switch Node Connection to the Inductor. This pin swings from VIN to a Schottky diode (external) voltage drop below ground. The cathode of the Schottky diode must be closely connected to this pin.", 2 GND (power) "Ground Pin. Connect to the (-) terminal of COUT, the Schottky diode and (-) terminal of CIN.", 3 VFB (in) "Receives the feedback voltage from the external resistive divider across the output. Nominal voltage for this pin is 1.25V.", 4 ITH/RUN (in) "Combination of Error Amplifier Compensation Point and Run Control Input. The current comparator threshold increases with this control voltage. Nominal voltage range for this pin is 1.25V to 2.25V. Forcing this pin below 0.8V (See Datasheet)", 5 VIN (power) "Main Supply Pin and the (+) Input to the Current Comparator. Must be closely decoupled to ground."

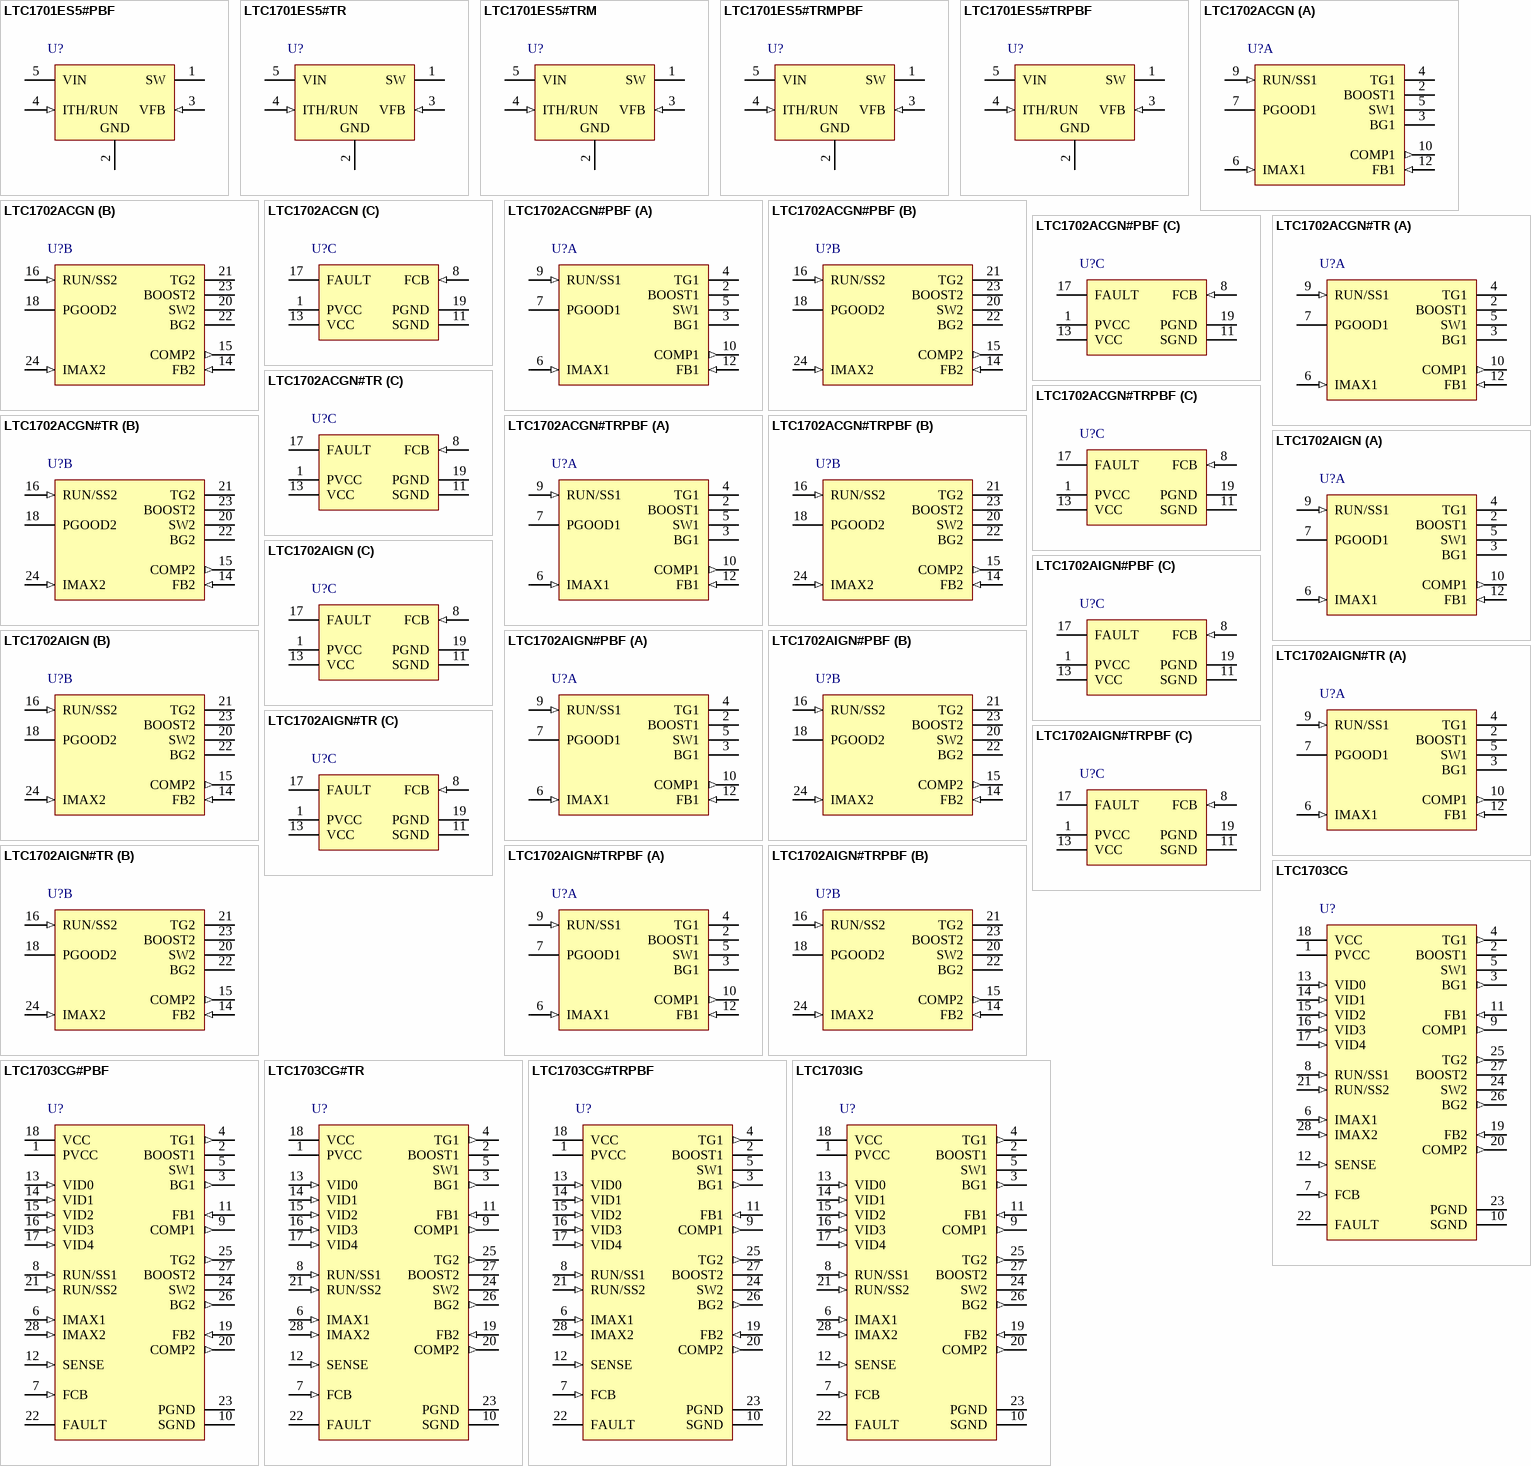
[diagram p4: symbols LTC1701ES5#PBF to LTC1703IG]

## LTC1701ES5#PBF
designator U?
1 MHz Step-Down DC/DC Converter, 5-pin SOT23 (S5-5), -40 to 85 degC, Pb-Free; Manufacturer: Linear Technology; PartNumber: LTC1701ES5#PBF; Number of Outputs: 1; PackageReference: S5-5; PackageDescription: 5-Pin Plastic TSOT-23, Body 1.63 x 2.90 mm, Pitch 0.95 mm; Supplier 1: Newark; Supplier Part Number 1: 78T2512; RoHS: TRUE; Code_JEDEC: MO-193
footprint LT-S5-5-TSOT-23_N (SOT23, 5-Leads, Body 2.90x1.63mm, Pitch 0.95mm, IPC Medium Density)
footprint LT-S5-5-TSOT-23_L (SOT23, 5-Leads, Body 2.90x1.63mm, Pitch 0.95mm, IPC High Density)
footprint LT-S5-5-TSOT-23_M (SOT23, 5-Leads, Body 2.90x1.63mm, Pitch 0.95mm, IPC Low Density)
pins: 1 SW (power) "The Switch Node Connection to the Inductor. This pin swings from VIN to a Schottky diode (external) voltage drop below ground. The cathode of the Schottky diode must be closely connected to this pin.", 2 GND (power) "Ground Pin. Connect to the (-) terminal of COUT, the Schottky diode and (-) terminal of CIN.", 3 VFB (in) "Receives the feedback voltage from the external resistive divider across the output. Nominal voltage for this pin is 1.25V.", 4 ITH/RUN (in) "Combination of Error Amplifier Compensation Point and Run Control Input. The current comparator threshold increases with this control voltage. Nominal voltage range for this pin is 1.25V to 2.25V. Forcing this pin below 0.8V (See Datasheet)", 5 VIN (power) "Main Supply Pin and the (+) Input to the Current Comparator. Must be closely decoupled to ground."

## LTC1701ES5#TR
designator U?
1 MHz Step-Down DC/DC Converter, 5-pin SOT23 (S5-5), -40 to 85 degC, Tape and Reel; Manufacturer: Linear Technology; PartNumber: LTC1701ES5#TR; Number of Outputs: 1; PackageReference: S5-5; PackageDescription: 5-Pin Plastic TSOT-23, Body 1.63 x 2.90 mm, Pitch 0.95 mm; Supplier 1: Digi-Key; Supplier Part Number 1: LTC1701ES5#TR-ND; RoHS: FALSE; Code_JEDEC: MO-193
footprint LT-S5-5-TSOT-23_N (SOT23, 5-Leads, Body 2.90x1.63mm, Pitch 0.95mm, IPC Medium Density)
footprint LT-S5-5-TSOT-23_L (SOT23, 5-Leads, Body 2.90x1.63mm, Pitch 0.95mm, IPC High Density)
footprint LT-S5-5-TSOT-23_M (SOT23, 5-Leads, Body 2.90x1.63mm, Pitch 0.95mm, IPC Low Density)
pins: 1 SW (power) "The Switch Node Connection to the Inductor. This pin swings from VIN to a Schottky diode (external) voltage drop below ground. The cathode of the Schottky diode must be closely connected to this pin.", 2 GND (power) "Ground Pin. Connect to the (-) terminal of COUT, the Schottky diode and (-) terminal of CIN.", 3 VFB (in) "Receives the feedback voltage from the external resistive divider across the output. Nominal voltage for this pin is 1.25V.", 4 ITH/RUN (in) "Combination of Error Amplifier Compensation Point and Run Control Input. The current comparator threshold increases with this control voltage. Nominal voltage range for this pin is 1.25V to 2.25V. Forcing this pin below 0.8V (See Datasheet)", 5 VIN (power) "Main Supply Pin and the (+) Input to the Current Comparator. Must be closely decoupled to ground."

## LTC1701ES5#TRM
designator U?
1 MHz Step-Down DC/DC Converter, 5-pin SOT23 (S5-5), -40 to 85 degC, Mini Tape and Reel; Manufacturer: Linear Technology; PartNumber: LTC1701ES5#TRM; Number of Outputs: 1; PackageReference: S5-5; PackageDescription: 5-Pin Plastic TSOT-23, Body 1.63 x 2.90 mm, Pitch 0.95 mm; Supplier 1: Digi-Key; Supplier Part Number 1: LTC1701ES5#TRM-ND; RoHS: FALSE; Code_JEDEC: MO-193
footprint LT-S5-5-TSOT-23_N (SOT23, 5-Leads, Body 2.90x1.63mm, Pitch 0.95mm, IPC Medium Density)
footprint LT-S5-5-TSOT-23_L (SOT23, 5-Leads, Body 2.90x1.63mm, Pitch 0.95mm, IPC High Density)
footprint LT-S5-5-TSOT-23_M (SOT23, 5-Leads, Body 2.90x1.63mm, Pitch 0.95mm, IPC Low Density)
pins: 1 SW (power) "The Switch Node Connection to the Inductor. This pin swings from VIN to a Schottky diode (external) voltage drop below ground. The cathode of the Schottky diode must be closely connected to this pin.", 2 GND (power) "Ground Pin. Connect to the (-) terminal of COUT, the Schottky diode and (-) terminal of CIN.", 3 VFB (in) "Receives the feedback voltage from the external resistive divider across the output. Nominal voltage for this pin is 1.25V.", 4 ITH/RUN (in) "Combination of Error Amplifier Compensation Point and Run Control Input. The current comparator threshold increases with this control voltage. Nominal voltage range for this pin is 1.25V to 2.25V. Forcing this pin below 0.8V (See Datasheet)", 5 VIN (power) "Main Supply Pin and the (+) Input to the Current Comparator. Must be closely decoupled to ground."

## LTC1701ES5#TRMPBF
designator U?
1 MHz Step-Down DC/DC Converter, 5-pin SOT23 (S5-5), -40 to 85 degC, Pb-Free, Mini Tape and Reel; Manufacturer: Linear Technology; PartNumber: LTC1701ES5#TRMPBF; Number of Outputs: 1; PackageReference: S5-5; PackageDescription: 5-Pin Plastic TSOT-23, Body 1.63 x 2.90 mm, Pitch 0.95 mm; Supplier 1: Digi-Key; Supplier Part Number 1: LTC1701ES5#TRMPBF-ND; RoHS: TRUE; Code_JEDEC: MO-193
footprint LT-S5-5-TSOT-23_N (SOT23, 5-Leads, Body 2.90x1.63mm, Pitch 0.95mm, IPC Medium Density)
footprint LT-S5-5-TSOT-23_L (SOT23, 5-Leads, Body 2.90x1.63mm, Pitch 0.95mm, IPC High Density)
footprint LT-S5-5-TSOT-23_M (SOT23, 5-Leads, Body 2.90x1.63mm, Pitch 0.95mm, IPC Low Density)
pins: 1 SW (power) "The Switch Node Connection to the Inductor. This pin swings from VIN to a Schottky diode (external) voltage drop below ground. The cathode of the Schottky diode must be closely connected to this pin.", 2 GND (power) "Ground Pin. Connect to the (-) terminal of COUT, the Schottky diode and (-) terminal of CIN.", 3 VFB (in) "Receives the feedback voltage from the external resistive divider across the output. Nominal voltage for this pin is 1.25V.", 4 ITH/RUN (in) "Combination of Error Amplifier Compensation Point and Run Control Input. The current comparator threshold increases with this control voltage. Nominal voltage range for this pin is 1.25V to 2.25V. Forcing this pin below 0.8V (See Datasheet)", 5 VIN (power) "Main Supply Pin and the (+) Input to the Current Comparator. Must be closely decoupled to ground."

## LTC1701ES5#TRPBF
designator U?
1 MHz Step-Down DC/DC Converter, 5-pin SOT23 (S5-5), -40 to 85 degC, Pb-Free, Tape and Reel; Manufacturer: Linear Technology; PartNumber: LTC1701ES5#TRPBF; Number of Outputs: 1; PackageReference: S5-5; PackageDescription: 5-Pin Plastic TSOT-23, Body 1.63 x 2.90 mm, Pitch 0.95 mm; Supplier 1: Digi-Key; Supplier Part Number 1: LTC1701ES5#TRPBF-ND; RoHS: TRUE; Code_JEDEC: MO-193
footprint LT-S5-5-TSOT-23_N (SOT23, 5-Leads, Body 2.90x1.63mm, Pitch 0.95mm, IPC Medium Density)
footprint LT-S5-5-TSOT-23_L (SOT23, 5-Leads, Body 2.90x1.63mm, Pitch 0.95mm, IPC High Density)
footprint LT-S5-5-TSOT-23_M (SOT23, 5-Leads, Body 2.90x1.63mm, Pitch 0.95mm, IPC Low Density)
pins: 1 SW (power) "The Switch Node Connection to the Inductor. This pin swings from VIN to a Schottky diode (external) voltage drop below ground. The cathode of the Schottky diode must be closely connected to this pin.", 2 GND (power) "Ground Pin. Connect to the (-) terminal of COUT, the Schottky diode and (-) terminal of CIN.", 3 VFB (in) "Receives the feedback voltage from the external resistive divider across the output. Nominal voltage for this pin is 1.25V.", 4 ITH/RUN (in) "Combination of Error Amplifier Compensation Point and Run Control Input. The current comparator threshold increases with this control voltage. Nominal voltage range for this pin is 1.25V to 2.25V. Forcing this pin below 0.8V (See Datasheet)", 5 VIN (power) "Main Supply Pin and the (+) Input to the Current Comparator. Must be closely decoupled to ground."

## LTC1702ACGN
designator U?
Dual 550 kHz Synchronous 2-Phase Switching Regulator Controller, 24-pin SOP (GN-24), 0 to 70 degC; Manufacturer: Linear Technology; PartNumber: LTC1702ACGN; Number of Outputs: 2; PackageReference: GN24; PackageDescription: 24-Pin Plastic SSOP , Body 8.5 x 3.9 mm, Pitch 0.635 mm; Supplier 1: Digi-Key; Supplier Part Number 1: LTC1702ACGN-ND; RoHS: FALSE
footprint LT-GN-24_N (SOP, 24-Leads, Body 8.7x4mm, Pitch 0.635mm, IPC Medium Density)
footprint LT-GN-24_L (SOP, 24-Leads, Body 8.7x4mm, Pitch 0.635mm, IPC High Density)
footprint LT-GN-24_M (SOP, 24-Leads, Body 8.7x4mm, Pitch 0.635mm, IPC Low Density)
part A pins: 2 BOOST1 "Controller 1 Top Gate Driver Supply. The BOOST1 pin supplies power to the floating TG1 driver. BOOST1 should be bypassed to SW1 with a 1uF capacitor. An additional Schottky diode from VIN to BOOST1 pin will create a complete (See Datasheet)", 3 BG1 (hiz) "Controller 1 Bottom Gate Drive. The BG1 pin drives the gate of the bottom N-channel synchronous switch MOSFET, QB1. BG1 is designed to drive up to 10,000pF of gate capacitance directly. If RUN/SS1 goes low, BG1 will go low, (See Datasheet)", 4 TG1 (hiz) "Controller 1 Top Gate Drive. The TG1 pin drives the gate of the top N-channel MOSFET, QT1. The TG1 driver draws power from the BOOST1 pin and returns to the SW1 pin, providing true floating drive to QT1. TG1 is designed to (See Datasheet)", 5 SW1 "Controller 1 Switching Node. SW1 should be connected to the switching node of converter 1. The TG1 driver ground returns to SW1, providing floating gate drive to the top N-channel MOSFET switch, QT1. The voltage at SW1 is (See Datasheet)", 6 IMAX1 (in) "Controller 1 Current Limit Set. The IMAX1 pin sets the current limit comparator threshold for controller 1. If the voltage drop across the bottom MOSFET, QB1, exceeds the magnitude of the voltage at IMAX1, controller 1 will (See Datasheet)", 7 PGOOD1 (hiz) "Controller 1 Power Good. PGOOD1 is an open-drain logic output. PGOOD1 will pull low whenever FB1 falls 5% below its programmed value. When RUN/SS1 is low (side 1 shut down), PGOOD1 will go high.", 9 RUN/SS1 (in) "Controller 1 Run/Soft-start. Pulling RUN/SS1 to SGND will disable controller 1 and turn off both of its external MOSFET switches. Pulling both RUN/SS pins down will shut down the entire LTC1702A, dropping the quiescent (See Datasheet)", 10 COMP1 (out) "Controller 1 Loop Compensation. The COMP1 pin is connected directly to the output of the first controller’s error amplifier and the input to the PWM comparator. An RC network is used at the COMP1 pin to compensate th(See Datasheet)", 12 FB1 (in) "Controller 1 Feedback Input. FB1 should be connected through a resistor network to VOUT1 to set the output voltage. The loop compensation network for controller 1 also connects to FB1."
part B pins: 14 FB2 (in) "Controller 2 Feedback Input. See FB1.", 15 COMP2 (out) "Controller 2 Loop Compensation. See COMP1.", 16 RUN/SS2 (in) "Controller 2 Run/Soft-start. See RUN/ SS1.", 18 PGOOD2 (hiz) "Controller 2 Power Good. See PGOOD1.", 20 SW2 "Controller 2 Switching Node. See SW1.", 21 TG2 (hiz) "Controller 2 Top Gate Drive. See TG1.", 22 BG2 (hiz) "Controller 2 Bottom Gate Drive. See BG1.", 23 BOOST2 "Controller 2 Top Gate Driver Supply. See BOOST1.", 24 IMAX2 (in) "Controller 2 Current Limit Set. See IMAX1."
part C pins: 1 PVCC (power) "Driver Power Supply Input. PVCC provides power to the two BGn output drivers. PVCC must be connected to a voltage high enough to fully turn on the external MOSFETs QB1 and QB2. PVCC should generally be connected directly to (See Datasheet)", 8 FCB (in) "Force Continuous Bar. The FCB pin forces both converters to maintain continuous synchronous operation regardless of load when the voltage at FCB drops below 0.8V. FCB is normally tied to VCC. To force continuous operation, (See Datasheet)", 11 SGND (power) "Signal Ground. All internal low power circuitry returns to the SGND pin. Connect to a low impedance ground, separated from the PGND node. All feedback, compensation and soft-start connections should return to SGND. SGND and (See Datasheet)", 13 VCC (power) "Power Supply Input. All internal circuits except the output drivers are powered from this pin. VCC should be connected to a low noise power supply voltage between 3V and 7V and should be bypassed to SGND with at least a 1uF (See Datasheet)", 17 FAULT (hiz) "Output Overvoltage Fault (Latched). The FAULT pin is an open-drain output with an internal 10uA pull-up. If either regulated output voltage rises more than 15% above its programmed value for more than 25us, the FAULT output (See Datasheet)", 19 PGND (power) "Power Ground. The BGn drivers return to this pin. Connect PGND to a high current ground node in close proximity to the sources of external MOSFETs, QB1 and QB2, and the VIN and VOUT bypass capacitors."